# Altium footprint library OPA380AIDGKT.PcbLib: 3 footprints
Each footprint in its own frame and in the unit in brackets; x right, y up, seen from the top. Pads: shape width x height; smd on the part's side, far side on the other; paste and mask are expansions set on the pad; w line width, h text height; cw(c..) or ccw(c..) is an arc to the next point about the centre after c.
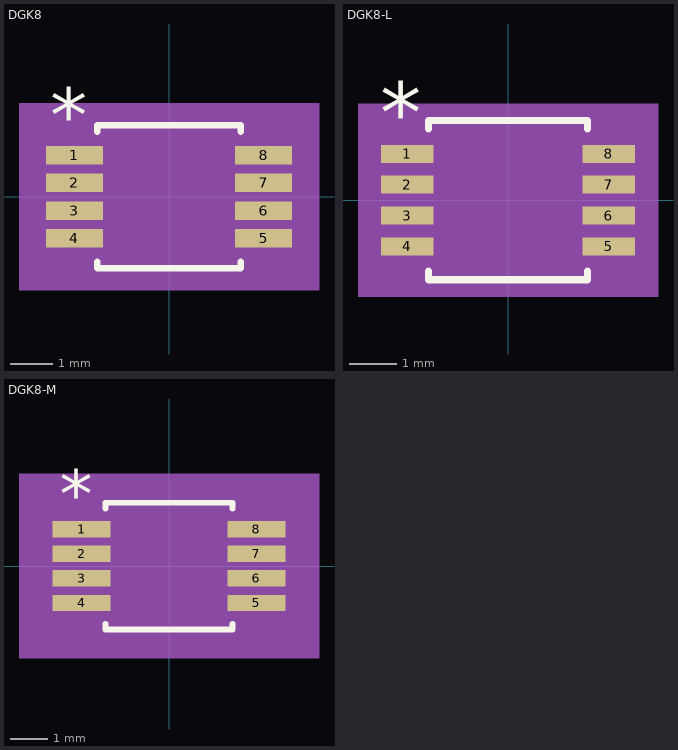
[diagram p0: the footprints below, top view; thin cyan lines are the x and y axes]

## DGK8 [mm]
pads (8):
  rect 1.328x0.431 smd paste+0 mask+0: 1(-2.213,0.975) 2(-2.213,0.325) 3(-2.213,-0.325) 4(-2.213,-0.975) 5(2.213,-0.975) 6(2.213,-0.325) 7(2.213,0.325) 8(2.213,0.975)
Top Overlay:
  lines w0.152: -1.676,-1.523 -1.676,-1.676 1.676,-1.676 1.676,-1.523 ; -1.676,1.523 -1.676,1.676 1.676,1.676 1.676,1.523
  text "*" at -2.785,1.279 h1.27
Mechanical 5:
  region: 3.512,-2.184 -3.512,-2.184 -3.512,2.184 3.512,2.184
Mechanical 13:
  lines w0: -0.305,1.549 ccw(c0,1.549) 0.305,1.549
  lines w0.025: -2.527,-1.165 -2.527,-0.784 -1.549,-0.784 -1.549,-1.165 -2.527,-1.165 ; -2.527,-0.516 -2.527,-0.135 -1.549,-0.135 -1.549,-0.516 -2.527,-0.516 ; -2.527,0.135 -2.527,0.516 -1.549,0.516 -1.549,0.135 -2.527,0.135 ; -2.527,0.784 -2.527,1.165 -1.549,1.165 -1.549,0.784 -2.527,0.784 ; -1.549,-1.549 1.549,-1.549 1.549,1.549 -1.549,1.549 -1.549,-1.549 ; 1.549,-1.165 1.549,-0.784 2.527,-0.784 2.527,-1.165 1.549,-1.165 ; 1.549,-0.516 1.549,-0.135 2.527,-0.135 2.527,-0.516 1.549,-0.516 ; 1.549,0.135 1.549,0.516 2.527,0.516 2.527,0.135 1.549,0.135 ; 1.549,0.784 1.549,1.165 2.527,1.165 2.527,0.784 1.549,0.784
  text "*" at -1.486,0.203 h1.27
Mechanical 15:
  region: -1.803,-1.445 -3.131,-1.445 -3.131,1.445 -1.803,1.445 -1.803,1.803 1.803,1.803 1.803,1.445 3.131,1.445 3.131,-1.445 1.803,-1.445 1.803,-1.803 -1.803,-1.803
  lines w0.152: -3.131,-1.445 -3.131,1.445 -1.803,1.445 -1.803,1.803 1.803,1.803 1.803,1.445 3.131,1.445 3.131,-1.445 1.803,-1.445 1.803,-1.803 -1.803,-1.803 -1.803,-1.445 -3.131,-1.445
3D body "DGK8.step": height 1.09, standoff 0, extent -2.527,-1.549 2.527,1.549

## DGK8-L [mm]
pads (8):
  rect 1.111x0.381 smd paste+0 mask+0: 1(-2.122,0.975) 2(-2.122,0.325) 3(-2.122,-0.325) 4(-2.122,-0.975) 5(2.122,-0.975) 6(2.122,-0.325) 7(2.122,0.325) 8(2.122,0.975)
Top Overlay:
  lines w0.152: -1.676,-1.498 -1.676,-1.676 1.676,-1.676 1.676,-1.498 ; -1.676,1.498 -1.676,1.676 1.676,1.676 1.676,1.498
  text "*" at -2.693,1.229 h1.27
Mechanical 5:
  region: 3.16,-2.032 -3.16,-2.032 -3.16,2.032 3.16,2.032
Mechanical 13:
  lines w0: -0.305,1.549 ccw(c0,1.549) 0.305,1.549
  lines w0.025: -2.527,-1.165 -2.527,-0.784 -1.549,-0.784 -1.549,-1.165 -2.527,-1.165 ; -2.527,-0.516 -2.527,-0.135 -1.549,-0.135 -1.549,-0.516 -2.527,-0.516 ; -2.527,0.135 -2.527,0.516 -1.549,0.516 -1.549,0.135 -2.527,0.135 ; -2.527,0.784 -2.527,1.165 -1.549,1.165 -1.549,0.784 -2.527,0.784 ; -1.549,-1.549 1.549,-1.549 1.549,1.549 -1.549,1.549 -1.549,-1.549 ; 1.549,-1.165 1.549,-0.784 2.527,-0.784 2.527,-1.165 1.549,-1.165 ; 1.549,-0.516 1.549,-0.135 2.527,-0.135 2.527,-0.516 1.549,-0.516 ; 1.549,0.135 1.549,0.516 2.527,0.516 2.527,0.135 1.549,0.135 ; 1.549,0.784 1.549,1.165 2.527,1.165 2.527,0.784 1.549,0.784
  text "*" at -1.486,0.203 h1.27
Mechanical 15:
  region: -1.651,-1.267 -2.779,-1.267 -2.779,1.267 -1.651,1.267 -1.651,1.651 1.651,1.651 1.651,1.267 2.779,1.267 2.779,-1.267 1.651,-1.267 1.651,-1.651 -1.651,-1.651
  lines w0.152: -2.779,-1.267 -2.779,1.267 -1.651,1.267 -1.651,1.651 1.651,1.651 1.651,1.267 2.779,1.267 2.779,-1.267 1.651,-1.267 1.651,-1.651 -1.651,-1.651 -1.651,-1.267 -2.779,-1.267
3D body "DGK8.step": height 1.09, standoff 0, extent -2.527,-1.549 2.527,1.549

## DGK8-M [mm]
pads (8):
  rect 1.528x0.431 smd paste+0 mask+0: 1(-2.313,0.975) 2(-2.313,0.325) 3(-2.313,-0.325) 4(-2.313,-0.975) 5(2.313,-0.975) 6(2.313,-0.325) 7(2.313,0.325) 8(2.313,0.975)
Top Overlay:
  lines w0.152: -1.676,-1.523 -1.676,-1.676 1.676,-1.676 1.676,-1.523 ; -1.676,1.523 -1.676,1.676 1.676,1.676 1.676,1.523
  text "*" at -2.885,1.279 h1.27
Mechanical 5:
  region: 3.966,-2.438 -3.966,-2.438 -3.966,2.438 3.966,2.438
Mechanical 13:
  lines w0: -0.305,1.549 ccw(c0,1.549) 0.305,1.549
  lines w0.025: -2.527,-1.165 -2.527,-0.784 -1.549,-0.784 -1.549,-1.165 -2.527,-1.165 ; -2.527,-0.516 -2.527,-0.135 -1.549,-0.135 -1.549,-0.516 -2.527,-0.516 ; -2.527,0.135 -2.527,0.516 -1.549,0.516 -1.549,0.135 -2.527,0.135 ; -2.527,0.784 -2.527,1.165 -1.549,1.165 -1.549,0.784 -2.527,0.784 ; -1.549,-1.549 1.549,-1.549 1.549,1.549 -1.549,1.549 -1.549,-1.549 ; 1.549,-1.165 1.549,-0.784 2.527,-0.784 2.527,-1.165 1.549,-1.165 ; 1.549,-0.516 1.549,-0.135 2.527,-0.135 2.527,-0.516 1.549,-0.516 ; 1.549,0.135 1.549,0.516 2.527,0.516 2.527,0.135 1.549,0.135 ; 1.549,0.784 1.549,1.165 2.527,1.165 2.527,0.784 1.549,0.784
  text "*" at -1.486,0.203 h1.27
Mechanical 15:
  region: -2.057,-1.699 -3.585,-1.699 -3.585,1.699 -2.057,1.699 -2.057,2.057 2.057,2.057 2.057,1.699 3.585,1.699 3.585,-1.699 2.057,-1.699 2.057,-2.057 -2.057,-2.057
  lines w0.152: -3.585,-1.699 -3.585,1.699 -2.057,1.699 -2.057,2.057 2.057,2.057 2.057,1.699 3.585,1.699 3.585,-1.699 2.057,-1.699 2.057,-2.057 -2.057,-2.057 -2.057,-1.699 -3.585,-1.699
3D body "DGK8.step": height 1.09, standoff 0, extent -2.527,-1.549 2.527,1.549